# Altium schematic symbol library SN74LVC2G34DBVR.SchLib: 1 symbol
Pins are listed as number, name and electrical type; pins without a type are passive.

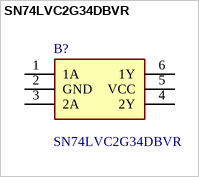
[diagram p0: symbol SN74LVC2G34DBVR]

## SN74LVC2G34DBVR
designator B?
Texas Instruments SN74LVC2G34DBVR, Dual, Buffer, Non-Inverting, 1.65  5.5 V, 6-Pin SOT-23; Geometry.Height: 1.45mm; Manufacturer_Name: Texas Instruments; Manufacturer_Part_Number: SN74LVC2G34DBVR; Mouser Part Number: 595-SN74LVC2G34DBVR; Mouser Price/Stock: https://www.mouser.co.uk/ProductDetail/Texas-Instruments/SN74LVC2G34DBVR?qs=gqbMQSs93zOw%2FyHBVKqhZQ%3D%3D; Arrow Part Number: SN74LVC2G34DBVR; Arrow Price/Stock: https://www.arrow.com/en/products/sn74lvc2g34dbvr/texas-instruments?utm_currency=USD&region=nac; Datasheet Link: https://www.ti.com/lit/gpn/SN74LVC2G34
footprint SOT95P280X145-6N
pins: 1 1A, 2 GND, 3 2A, 4 2Y, 5 VCC, 6 1Y